# Altium footprint library DF51K-20DP-2DS(800).PcbLib: 1 footprints
Each footprint in its own frame and in the unit in brackets; x right, y up, seen from the top. Pads: shape width x height; smd on the part's side, far side on the other; paste and mask are expansions set on the pad; w line width, h text height; cw(c..) or ccw(c..) is an arc to the next point about the centre after c.
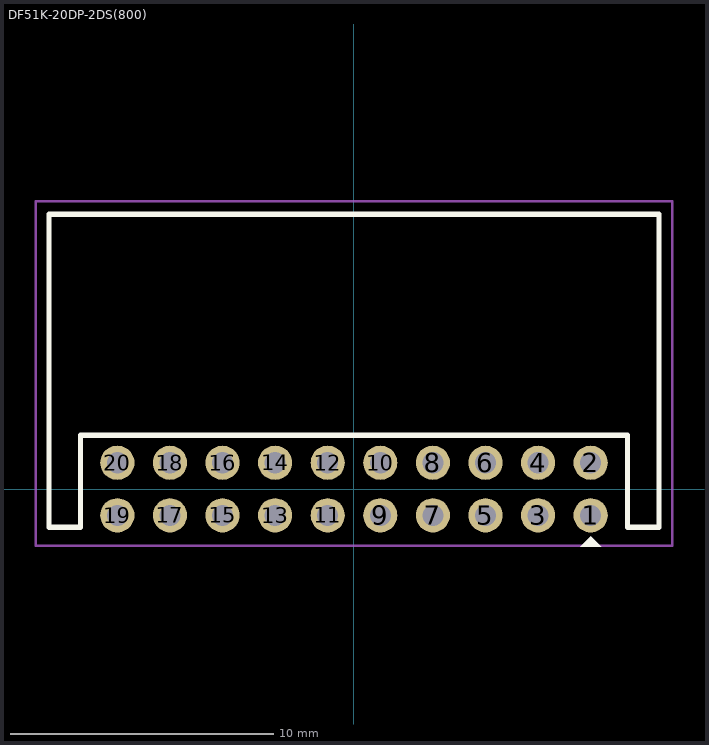
[diagram p0: the footprint, top view; thin cyan lines are the x and y axes]

## DF51K-20DP-2DS(800) [mm]
pads (20):
  round 1.3 hole 0.8: 1(9,-1) 2(9,1) 3(7,-1) 4(7,1) 5(5,-1) 6(5,1) 7(3,-1) 8(3,1) 9(1,-1) 10(1,1) 11(-1,-1) 12(-1,1) 13(-3,-1) 14(-3,1) 15(-5,-1) 16(-5,1) 17(-7,-1) 18(-7,1) 19(-9,-1) 20(-9,1)
Top Overlay:
  region: 9.4,-2.2 8.6,-2.2 9,-1.8
  lines w0.2: -11.6,-1.45 -11.6,10.45 11.6,10.45 11.6,-1.45 10.4,-1.45 10.4,2.05 -10.4,2.05 -10.4,-1.45 -11.6,-1.45
Top Courtyard:
  lines w0.1: -12.1,-2.15 -12.1,10.95 12.1,10.95 12.1,-2.15 -9,-2.15 -12.1,-2.15
3D body "DF51K-20DP-2DS(805)--3DModel-STEP-1.STEP": height 8.75, standoff -3, extent -11.6,-1.45 11.6,10.45